# Altium schematic symbol library 2P303G.SchLib: 1 symbol
Pins are listed as number, name and electrical type; pins without a type are passive.

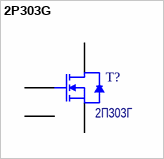
[diagram p0: symbol 2P303G]

## 2P303G
designator T?, comment 2П303Г
N channel; Назначение: N channel Generic MosFET; Потребление, Вт: 0,0; Наименование: 2П303Г
footprint TO-18 4
pins: 1 GATE, 2 CASE, 3 SOURCE, 4 DRAIN